# EAGLE library part PVG612 (library Radicon)
PVG612 OPTORELE
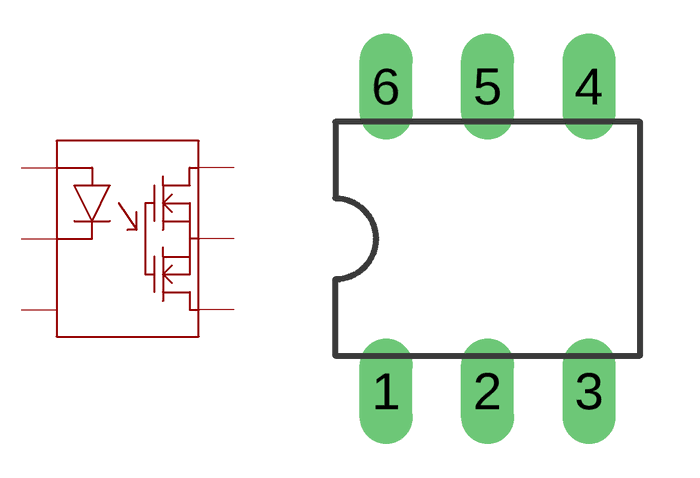
[diagram p7: symbol with the pads of DIL06; footprint DIL06]

Designator prefix DA

## PVG612  [DIL06]
1  A
2  K
3  NC
4  3
5  2
6  1

## Footprint DIL06 (pad centres in mm)
Dual In Line Package
drill 0.813 long: 1 -3.81,-3.81; 2 -1.27,-3.81; 3 1.27,-3.81; 4 1.27,3.81; 5 -1.27,3.81; 6 -3.81,3.81